# EAGLE library part CD74HC4067-SM96_16:1_MUX-DEMUX (library PiB)
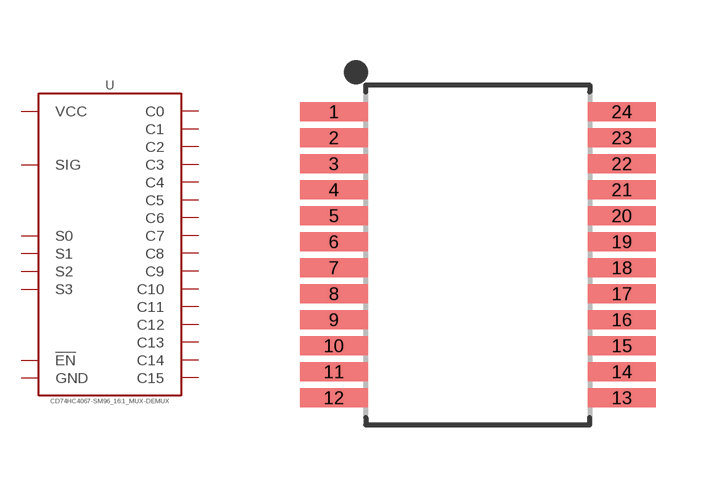
[diagram p1: symbol with the pads of SOP65P780X200-24; footprint SOP65P780X200-24]

Designator prefix U

## CD74HC4067-SM96_16:1_MUX-DEMUX_SOP-24_16:1-MUX-DEMUX (DATASHEET: http://www.ti.com/lit/ds/symlink/cd74hc4067.pdf; DIST: Digikey; DISTLINK: https://www.digikey.com/products/en?keywords=296-9226-1-ND; DISTPN: 296-9226-1-ND; MFR: Texas Instruments; MPN: CD74HC4067SM96)  [SOP65P780X200-24]
1  SIG
2  C7
3  C6
4  C5
5  C4
6  C3
7  C2
8  C1
9  C0
10  S0  pas
11  S1  pas
12  GND  pwr
13  S3  pas
14  S2  pas
15  !EN  pas
16  C15
17  C14
18  C13
19  C12
20  C11
21  C10
22  C9
23  C8
24  VCC  pwr

## Footprint SOP65P780X200-24 (pad centres in mm)
24-SOP, 0.65 mm pitch, 7.8 mm span, 8.2 X 5.3 X 2 mm body 24-pin SOP package with 0.65 mm pitch, 7.8 mm span with body size 8.2 X 5.3 X 2 mm
smd 1.702 x 0.475: 1 -3.603,3.575; 2 -3.603,2.925; 3 -3.603,2.275; 4 -3.603,1.625; 5 -3.603,0.975; 6 -3.603,0.325; 7 -3.603,-0.325; 8 -3.603,-0.975; 9 -3.603,-1.625; 10 -3.603,-2.275; 11 -3.603,-2.925; 12 -3.603,-3.575; 13 3.603,-3.575; 14 3.603,-2.925; 15 3.603,-2.275; 16 3.603,-1.625; 17 3.603,-0.975; 18 3.603,-0.325; 19 3.603,0.325; 20 3.603,0.975; 21 3.603,1.625; 22 3.603,2.275; 23 3.603,2.925; 24 3.603,3.575